# Altium footprint library TRANS_RM6.PcbLib: 1 footprints
Each footprint in its own frame and in the unit in brackets; x right, y up, seen from the top. Pads: shape width x height; smd on the part's side, far side on the other; paste and mask are expansions set on the pad; w line width, h text height; cw(c..) or ccw(c..) is an arc to the next point about the centre after c.
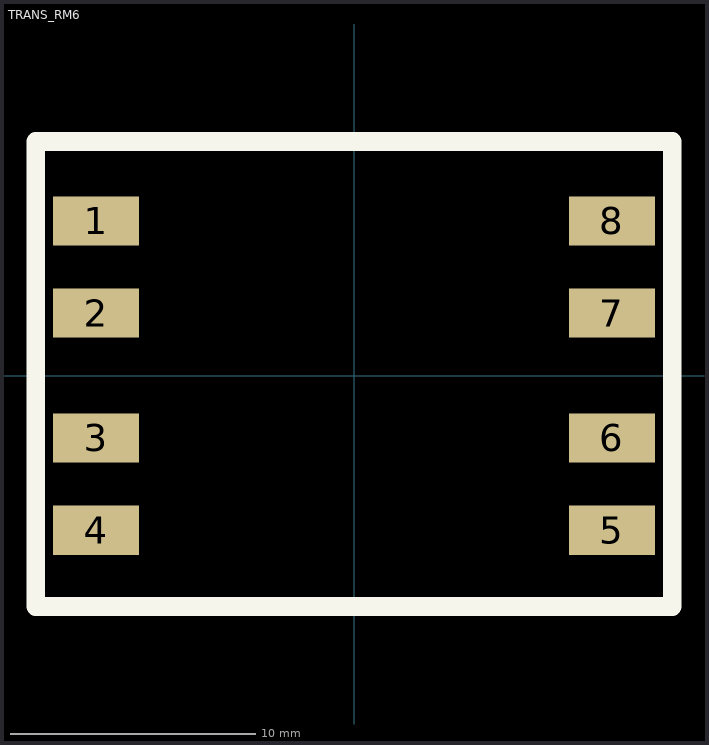
[diagram p0: the footprint, top view; thin cyan lines are the x and y axes]

## TRANS_RM6 [mm]
pads (8):
  rect 3.5x2 smd: 1(-10.5,6.3) 2(-10.5,2.54) 3(-10.5,-2.54) 4(-10.5,-6.3) 5(10.5,-6.3) 6(10.5,-2.54) 7(10.5,2.54) 8(10.5,6.3)
Top Overlay:
  lines w0.762: -12.954,-9.398 12.954,-9.398 12.954,9.525 -12.954,9.525 -12.954,-9.398
3D body "User Library-RM-6 Epcos SMD (B65807J0000R087+B65821C1008T001).STEP": height 12.68, standoff 0.01, extent -11,-9.078 11,9.078